# Altium schematic symbol library ADG5404BRUZ.SchLib: 1 symbol
Pins are listed as number, name and electrical type; pins without a type are passive.

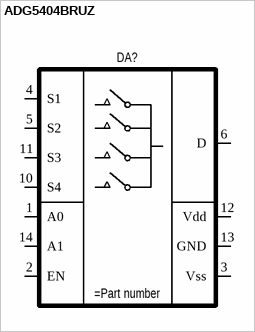
[diagram p0: symbol ADG5404BRUZ]

## ADG5404BRUZ
designator DA?
High Voltage, Latch-up Proof, / 4-Channel Multiplexer
pins: 1 A0, 2 EN, 3 Vss, 4 S1, 5 S2, 6 D, 10 S4, 11 S3, 12 Vdd, 13 GND, 14 A1